# Altium footprint library Oscillator.PcbLib: 1 footprints
Each footprint in its own frame and in the unit in brackets; x right, y up, seen from the top. Pads: shape width x height; smd on the part's side, far side on the other; paste and mask are expansions set on the pad; w line width, h text height; cw(c..) or ccw(c..) is an arc to the next point about the centre after c.
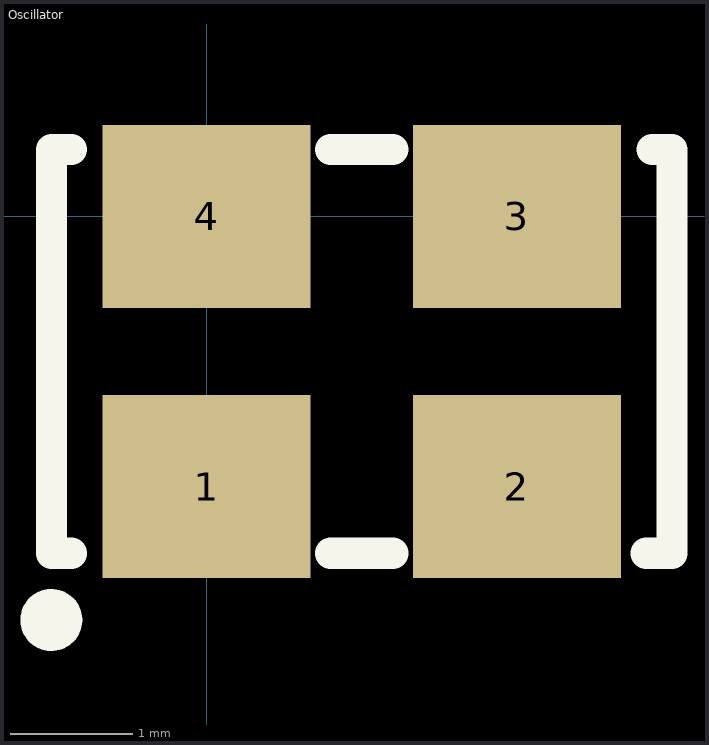
[diagram p0: the footprint, top view; thin cyan lines are the x and y axes]

## Oscillator [mil]
pads (4):
  rect 67x59 smd: 1(0,-87) 2(100,-87) 3(100,0) 4(0,0)
Top Overlay:
  circle w10: c-50,-130 r5
  lines w10: -43.5,-108.5 -50,-108.5 -50,21.5 -43.5,21.5 ; 40,-108.5 60,-108.5 ; 40,21.5 60,21.5 ; 141.5,-108.5 150,-108.5 150,21.5 143.5,21.5